# EAGLE library part SX1278_2 (library RadioShield)
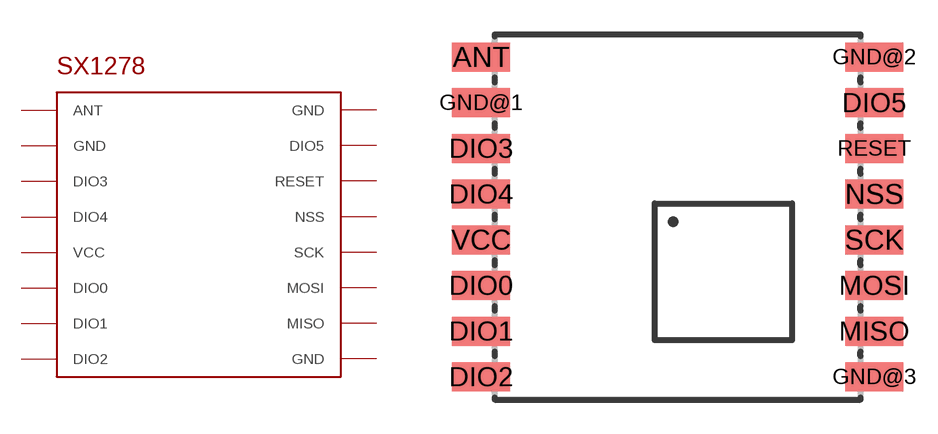
[diagram p10: symbol with the pads of SX1278_2; footprint SX1278_2]

Designator prefix -

## SX1278_2  [SX1278_2]
ANT  ANT
DIO0  DIO0
DIO1  DIO1
DIO2  DIO2
DIO3  DIO3
DIO4  DIO4
DIO5  DIO5
GND@1  GND
GND@2  GND
GND@3  GND
MISO  MISO
MOSI  MOSI
NSS  NSS
RESET  RESET
SCK  SCK
VCC  VCC

## Footprint SX1278_2 (pad centres in mm)
smd 2.54 x 1.27: ANT -8.6,7; DIO0 -8.6,-3; DIO1 -8.6,-5; DIO2 -8.6,-7; DIO3 -8.6,3; DIO4 -8.6,1; DIO5 8.6,5; GND@1 -8.6,5; GND@2 8.6,7; GND@3 8.6,-7; MISO 8.6,-5; MOSI 8.6,-3; NSS 8.6,1; RESET 8.6,3; SCK 8.6,-1; VCC -8.6,-1